# Altium footprint library MILL_MAX_384.PcbLib: 1 footprints
Each footprint in its own frame and in the unit in brackets; x right, y up, seen from the top. Pads: shape width x height; smd on the part's side, far side on the other; paste and mask are expansions set on the pad; w line width, h text height; cw(c..) or ccw(c..) is an arc to the next point about the centre after c.
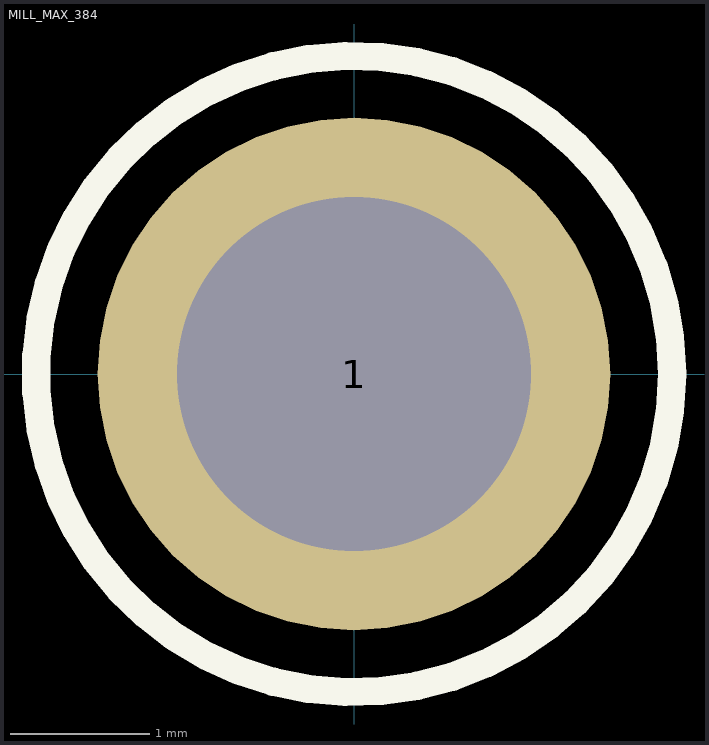
[diagram p0: the footprint, top view; thin cyan lines are the x and y axes]

## MILL_MAX_384 [mil]
pads (1):
  round 145 hole 100: 1(0,0)
Top Overlay:
  circle w8: c0,0 r90
3D body: height 30, standoff -110, extent -60.99,-60.99 61,61